# Altium footprint library Audio-Streamer.PcbLib: 31 footprints (part 1 of 2)
Each footprint in its own frame and in the unit in brackets; x right, y up, seen from the top. Pads: shape width x height; smd on the part's side, far side on the other; paste and mask are expansions set on the pad; w line width, h text height; cw(c..) or ccw(c..) is an arc to the next point about the centre after c.
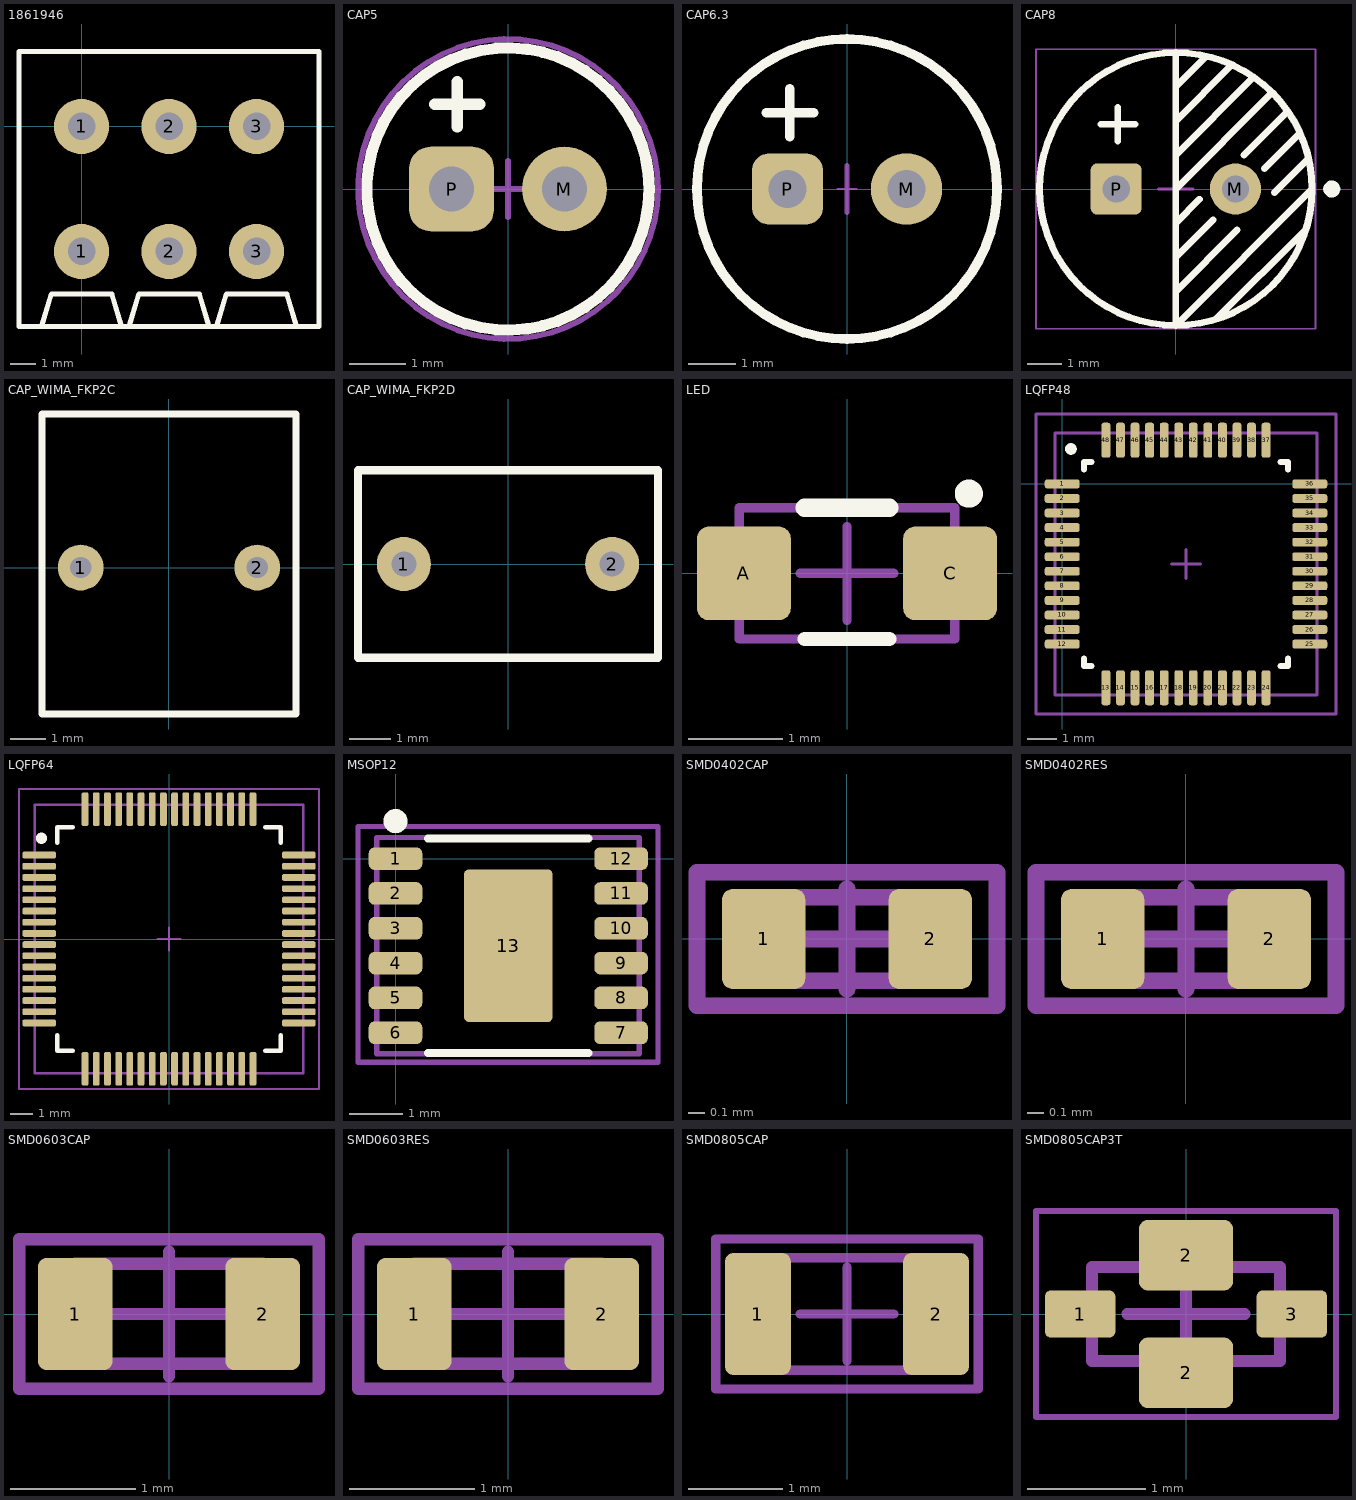
[diagram p0: the footprints below, top view; thin cyan lines are the x and y axes]

## 1861946 [mm] "Phoenix Contacts 3 Pol"
pads (6):
  round 2.2 hole 1.1: 1(0,-5) 1(0,0) 2(3.5,-5) 2(3.5,0) 3(7,-5) 3(7,0)
Top Overlay:
  lines w0.2: -1.6,-8 -1.21,-6.7 1.21,-6.7 1.6,-8 ; 1.9,-8 2.29,-6.7 4.71,-6.7 5.1,-8 ; 5.4,-8 5.79,-6.7 8.21,-6.7 8.6,-8 ; -2.5,-8 9.5,-8 9.5,3 -2.5,3 -2.5,-8
3D Top:
  lines w0.1: -2.5,-8 9.5,-8 9.5,3 -2.5,3 -2.5,-8
3D body "pxc_1861946_01_SPTAF-1-3-3-5-IL_3D.stp": height 8, standoff -2.6, extent -2.5,-8 9.5,3

## CAP5 [mm] "Aluminum Electrolytic Capacitors, 5mm x 12.5mm"
height 11
pads (2):
  round 1.5 hole 0.8: M(1,0)
  rrect50% 1.5x1.5 hole 0.8: P(-1,0)
Top Overlay:
  circle w0.2: c0,0 r2.5
  lines w0.2: -1.3,1.5 -0.5,1.5 ; -0.9,1.1 -0.9,1.9
Crosshair:
  circle w0.1: c0,0 r2.657
  lines w0.05: 0,-0.2 0,0.2
  lines w0.1: -0.5,0 0.5,0 ; 0,-0.5 0,0.5
3D body: height 11, standoff 0, extent -2.5,-2.497 2.5,2.497

## CAP6.3 [mm] "Aluminum Electrolytic Capacitors, 6.3x11mm"
height 11
pads (2):
  round 1.5 hole 0.8: M(1.25,0)
  rrect50% 1.5x1.5 hole 0.8: P(-1.25,0)
Top Overlay:
  circle w0.2: c0,0 r3.15
  lines w0.2: -1.7,1.6 -0.7,1.6 ; -1.2,1.1 -1.2,2.1
3D Top:
  circle w0.1: c0,0 r3.15
Crosshair:
  lines w0.05: -0.2,0 0.2,0 ; 0,-0.2 0,0.2
  lines w0.1: 0,-0.5 0,0.5
3D body "6.3x11x2.5x0.5.stp": height 11.31, standoff -19.91, extent -3.15,-3.15 3.14,3.15

## CAP8 [mm]
pads (2):
  round 1.5 hole 0.8: M(1.75,0)
  rrect25% 1.5x1.5 hole 0.8: P(-1.75,0)
Top Overlay:
  circle w0.2: c0,0 r4
  circle w0.25: c4.575,0 r0.125
  lines w0.2: -2.2,1.9 -1.2,1.9 ; -1.7,1.4 -1.7,2.4 ; 0,-3 1.8,-1.2 ; 0,-2 1.1,-0.9 ; 0,-1 0.7,-0.3 ; 0,0 2.8,2.8 ; 0,1 2.25,3.25 ; 0,2 1.625,3.625 ; 0,3 0.875,3.875 ; 0,4 0,-4 4,0 ; 1.2,-3.8 3.8,-1.2 ; 2,1 3.275,2.275 ; 2.6,0.6 3.625,1.625 ; 2.9,-0.1 3.875,0.875
Crosshair:
  lines w0.05: -4.1,-4.1 4.1,-4.1 4.1,4.1 -4.1,4.1 -4.1,-4.1
  lines w0.1: -0.5,0 0.5,0 ; 0,-0.5 0,0.5
3D body "User Library-Cap-EL(8x11_5-3_5).step": height 11.55, standoff -3.25, extent -4,-3.998 4.002,3.998

## CAP_WIMA_FKP2C [mm] "WIMA FKP2"
pads (2):
  round 1.3 hole 0.6: 1(-2.5,0) 2(2.5,0)
Top Overlay:
  lines w0.2: -3.6,-4.15 3.6,-4.15 3.6,4.35 -3.6,4.35 -3.6,-4.15
3D Top:
  lines w0.1: -3.6,-4.15 -3.6,4.35 3.6,4.35 3.6,-4.15 -3.6,-4.15
3D body: height 10, standoff 0, extent -3.6,-4.15 3.6,4.35

## CAP_WIMA_FKP2D [mm] "WIMA FKP2"
pads (2):
  round 1.3 hole 0.6: 1(-2.5,0) 2(2.5,0)
Top Overlay:
  lines w0.2: -3.6,-2.25 3.6,-2.25 3.6,2.25 -3.6,2.25 -3.6,-2.25
3D Top:
  lines w0.1: -3.6,-2.25 -3.6,2.25 3.6,2.25 3.6,-2.25 -3.6,-2.25
3D body: height 6, standoff 0, extent -3.6,-2.25 3.6,2.25

## LED [mm]
pads (2):
  rrect25% 1x1 smd: A(-1.1,0) C(1.1,0)
Top Overlay:
  circle w0.2: c1.3,0.85 r0.05
  lines w0.152: -0.45,-0.7 0.45,-0.7
  lines w0.2: -0.45,0.7 0.45,0.7
Crosshair:
  lines w0.1: -0.5,0 0.5,0 ; 0,-0.5 0,0.5 ; -1.15,-0.7 -1.15,0.7 1.15,0.7 1.15,-0.7 -1.15,-0.7
3D body "Lx_M67x_211008_geometry.STEP": height 1.2, standoff -0.02, extent -1.15,-0.7 1.15,0.7

## LQFP48 [mm]
pads (48):
  rrect50% 1.2x0.3 smd: 1(0,0) 2(0,-0.5) 3(0,-1) 4(0,-1.5) 5(0,-2) 6(0,-2.5) 7(0,-3) 8(0,-3.5) 9(0,-4) 10(0,-4.5) 11(0,-5) 12(0,-5.5) 25(8.5,-5.5) 26(8.5,-5) 27(8.5,-4.5) 28(8.5,-4) 29(8.5,-3.5) 30(8.5,-3) 31(8.5,-2.5) 32(8.5,-2) 33(8.5,-1.5) 34(8.5,-1) 35(8.5,-0.5) 36(8.5,0)
  rrect50% 0.3x1.2 smd: 13(1.5,-7) 14(2,-7) 15(2.5,-7) 16(3,-7) 17(3.5,-7) 18(4,-7) 19(4.5,-7) 20(5,-7) 21(5.5,-7) 22(6,-7) 23(6.5,-7) 24(7,-7) 37(7,1.5) 38(6.5,1.5) 39(6,1.5) 40(5.5,1.5) 41(5,1.5) 42(4.5,1.5) 43(4,1.5) 44(3.5,1.5) 45(3,1.5) 46(2.5,1.5) 47(2,1.5) 48(1.5,1.5)
Top Overlay:
  circle w0.2: c0.3,1.2 r0.1
  lines w0.2: 0.75,-6 0.75,-6.25 1,-6.25 ; 0.75,0.5 0.75,0.75 1,0.75 ; 7.5,-6.25 7.75,-6.25 7.75,-6 ; 7.5,0.75 7.75,0.75 7.75,0.5
3D Top:
  lines w0.1: -0.25,-7.25 8.75,-7.25 8.75,1.75 -0.25,1.75 -0.25,-7.25
Crosshair:
  lines w0.1: 3.75,-2.75 4.75,-2.75 ; 4.25,-3.25 4.25,-2.25 ; -0.9,-7.9 -0.9,2.4 9.4,2.4 9.4,-7.9 -0.9,-7.9
3D body "User Library-sot313-2.STEP": height 1.5, standoff -0.04, extent -0.253,-7.25 8.753,1.756

## LQFP64 [mm] "LPQF64"
height 1.6
pads (64):
  rrect50% 1.5x0.3 smd: 1(-5.8,3.75) 2(-5.8,3.25) 3(-5.8,2.75) 4(-5.8,2.25) 5(-5.8,1.75) 6(-5.8,1.25) 7(-5.8,0.75) 8(-5.8,0.25) 9(-5.8,-0.25) 10(-5.8,-0.75) 11(-5.8,-1.25) 12(-5.8,-1.75) 13(-5.8,-2.25) 14(-5.8,-2.75) 15(-5.8,-3.25) 16(-5.8,-3.75) 33(5.8,-3.75) 34(5.8,-3.25) 35(5.8,-2.75) 36(5.8,-2.25) 37(5.8,-1.75) 38(5.8,-1.25) 39(5.8,-0.75) 40(5.8,-0.25) 41(5.8,0.25) 42(5.8,0.75) 43(5.8,1.25) 44(5.8,1.75) 45(5.8,2.25) 46(5.8,2.75) 47(5.8,3.25) 48(5.8,3.75)
  rrect50% 0.3x1.5 smd: 17(-3.75,-5.8) 18(-3.25,-5.8) 19(-2.75,-5.8) 20(-2.25,-5.8) 21(-1.75,-5.8) 22(-1.25,-5.8) 23(-0.75,-5.8) 24(-0.25,-5.8) 25(0.25,-5.8) 26(0.75,-5.8) 27(1.25,-5.8) 28(1.75,-5.8) 29(2.25,-5.8) 30(2.75,-5.8) 31(3.25,-5.8) 32(3.75,-5.8) 49(3.75,5.8) 50(3.25,5.8) 51(2.75,5.8) 52(2.25,5.8) 53(1.75,5.8) 54(1.25,5.8) 55(0.75,5.8) 56(0.25,5.8) 57(-0.25,5.8) 58(-0.75,5.8) 59(-1.25,5.8) 60(-1.75,5.8) 61(-2.25,5.8) 62(-2.75,5.8) 63(-3.25,5.8) 64(-3.75,5.8)
Top Overlay:
  circle w0.25: c-5.7,4.5 r0.125
  lines w0.2: -5,-4.3 -5,-5 -4.3,-5 ; -5,4.3 -5,5 -4.3,5 ; 4.3,-5 5,-5 5,-4.3 ; 4.3,5 5,5 5,4.3
3D Top:
  lines w0.1: -6,-6 6,-6 6,6 -6,6 -6,-6
Crosshair:
  lines w0.1: -0.5,0 0.5,0 ; 0,-0.5 0,0.5 ; -6.7,-6.7 6.7,-6.7 6.7,6.7 -6.7,6.7 -6.7,-6.7
3D body "LQFP-64.step": height 1.7, standoff -0.01, extent -6,-6 6,6

## MSOP12 [mm]
pads (13):
  rrect50% 1x0.42 smd: 1(0,0) 2(0,-0.65) 3(0,-1.3) 4(0,-1.95) 5(0,-2.6) 6(0,-3.25) 7(4.211,-3.25) 8(4.211,-2.6) 9(4.211,-1.95) 10(4.211,-1.3) 11(4.211,-0.65) 12(4.211,0)
  rrect10% 1.651x2.845 smd: 13(2.105,-1.625)
Top Overlay:
  circle w0.25: c0,0.7 r0.1
  lines w0.15: 0.606,-3.625 3.605,-3.625 ; 0.606,0.375 3.605,0.375
3D Top:
  lines w0.1: -0.35,-3.645 -0.35,0.395 4.55,0.395 4.55,-3.645 -0.35,-3.645
Crosshair:
  lines w0.1: 1.606,-1.625 2.605,-1.625 ; 2.105,-2.125 2.105,-1.125 ; -0.7,-3.8 -0.7,0.6 4.9,0.6 4.9,-3.8 -0.7,-3.8
3D body "MSOP-12.step": height 1.09, standoff -0.01, extent -0.35,-3.645 4.55,0.395

## SMD0402CAP [mm]
pads (2):
  rrect25% 0.5x0.6 smd: 1(-0.5,0) 2(0.5,0)
3D Top:
  lines w0.1: -0.5,-0.25 -0.5,0.25 0.5,0.25 0.5,-0.25 -0.5,-0.25
Crosshair:
  lines w0.1: -0.3,0 0.3,0 ; 0,-0.3 0,0.3 ; -0.9,-0.4 0.9,-0.4 0.9,0.4 -0.9,0.4 -0.9,-0.4
3D body: height 0.35, standoff 0, extent 0.35,-0.25 0.5,0.25
3D body: height 0.35, standoff 0, extent -0.5,-0.25 -0.35,0.25
3D body: height 0.35, standoff 0, extent -0.35,-0.25 0.35,0.25

## SMD0402RES [mm]
pads (2):
  rrect25% 0.5x0.6 smd: 1(-0.5,0) 2(0.5,0)
3D Top:
  lines w0.1: -0.5,-0.25 -0.5,0.25 0.5,0.25 0.5,-0.25 -0.5,-0.25
Crosshair:
  lines w0.1: -0.3,0 0.3,0 ; 0,-0.3 0,0.3 ; -0.9,-0.4 0.9,-0.4 0.9,0.4 -0.9,0.4 -0.9,-0.4
3D body: height 0.35, standoff 0, extent 0.35,-0.25 0.5,0.25
3D body: height 0.35, standoff 0, extent -0.5,-0.25 -0.35,0.25
3D body: height 0.35, standoff 0, extent -0.35,-0.25 0.35,0.25

## SMD0603CAP [mm]
pads (2):
  rrect25% 0.6x0.9 smd: 1(-0.75,0) 2(0.75,0)
3D Top:
  lines w0.1: -0.75,-0.4 0.75,-0.4 0.75,0.4 -0.75,0.4 -0.75,-0.4
Crosshair:
  lines w0.1: -0.5,0 0.5,0 ; 0,-0.5 0,0.5 ; -1.2,-0.6 -1.2,0.6 1.2,0.6 1.2,-0.6 -1.2,-0.6
3D body: height 0.45, standoff 0, extent -0.55,-0.4 0.55,0.4
3D body: height 0.45, standoff 0, extent -0.75,-0.4 -0.55,0.4
3D body: height 0.45, standoff 0, extent 0.55,-0.4 0.75,0.4

## SMD0603RES [mm]
pads (2):
  rrect25% 0.6x0.9 smd: 1(-0.75,0) 2(0.75,0)
3D Top:
  lines w0.1: -0.75,-0.4 0.75,-0.4 0.75,0.4 -0.75,0.4 -0.75,-0.4
Crosshair:
  lines w0.1: -0.5,0 0.5,0 ; 0,-0.5 0,0.5 ; -1.2,-0.6 -1.2,0.6 1.2,0.6 1.2,-0.6 -1.2,-0.6
3D body: height 0.45, standoff 0, extent -0.55,-0.4 0.55,0.4
3D body: height 0.45, standoff 0, extent -0.75,-0.4 -0.55,0.4
3D body: height 0.45, standoff 0, extent 0.55,-0.4 0.75,0.4

## SMD0805CAP [mm]
pads (2):
  rrect25% 0.7x1.3 smd: 1(-0.95,0) 2(0.95,0)
3D Top:
  lines w0.1: -1,-0.6 -1,0.6 1,0.6 1,-0.6 -1,-0.6
Crosshair:
  lines w0.1: -0.5,0 0.5,0 ; 0,-0.5 0,0.5 ; -1.4,-0.8 1.4,-0.8 1.4,0.8 -1.4,0.8 -1.4,-0.8
3D body: height 0.9, standoff 0, extent 0.7,-0.6 1,0.6
3D body: height 0.9, standoff 0, extent -1,-0.6 -0.7,0.6
3D body: height 0.9, standoff 0, extent -0.7,-0.6 0.7,0.6

## SMD0805CAP3T [mm]
pads (4):
  rrect25% 0.6x0.4 smd: 1(-0.9,0) 3(0.9,0)
  rrect25% 0.8x0.6 smd: 2(0,-0.5) 2(0,0.5)
3D Top:
  lines w0.1: -0.8,-0.4 0.8,-0.4 0.8,0.4 -0.8,0.4 -0.8,-0.4
Crosshair:
  lines w0.05: -1.275,-0.875 -1.275,0.875 1.275,0.875 1.275,-0.875 -1.275,-0.875
  lines w0.1: -0.5,0 0.5,0 ; 0,-0.5 0,0.5
3D body: height 0.61, standoff 0, extent -0.409,-0.405 0.409,-0.288
3D body: height 0.61, standoff 0, extent -0.409,0.288 0.409,0.405
3D body: height 0.61, standoff 0, extent 0.704,-0.1 0.804,0.1
3D body: height 0.61, standoff 0, extent -0.804,-0.1 -0.704,0.1
3D body: height 0.6, standoff 0, extent -0.8,-0.4 0.8,0.4